# Altium schematic symbol library DRV8844PWP.SchLib: 2 symbols
Pins are listed as number, name and electrical type; pins without a type are passive.

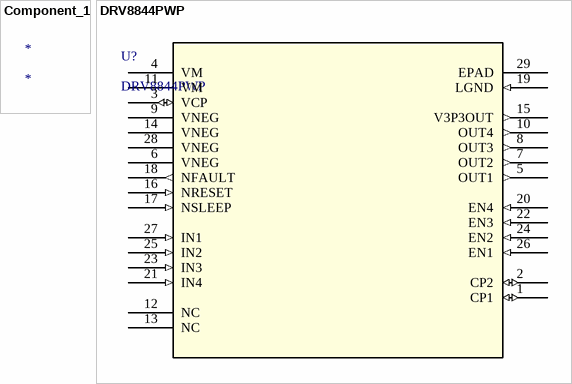
[diagram p0: symbols Component_1 to DRV8844PWP]

## Component_1
designator *

## DRV8844PWP
designator U?
No Description Available; Mfr_Name: Texas Instruments; Copyright: Copyright (C) 2022 Ultra Librarian. All rights reserved.; Manufacturer_Part_Number: DRV8844PWP; Digi-Key_Part_Number_1: 296-46510-5-ND; Digi-Key_Part_Number_2: DRV8844PWP-ND; RefDes: RefDes; Type: Type
footprint PWP28_5P18X3P1
pins: 1 CP1 (io), 2 CP2 (io), 3 VCP (io), 4 VM (power), 5 OUT1 (out), 6 VNEG (power), 7 OUT2 (out), 8 OUT3 (out), 9 VNEG (power), 10 OUT4 (out), 11 VM (power), 12 NC, 13 NC, 14 VNEG (power), 15 V3P3OUT (out), 16 NRESET (in), 17 NSLEEP (in), 18 NFAULT (out), 19 LGND (in), 20 EN4 (in), 21 IN4 (in), 22 EN3 (in), 23 IN3 (in), 24 EN2 (in), 25 IN2 (in), 26 EN1 (in), 27 IN1 (in), 28 VNEG (power), 29 EPAD